# EAGLE library part MPT18 (library pluggable_terminal_blocks)
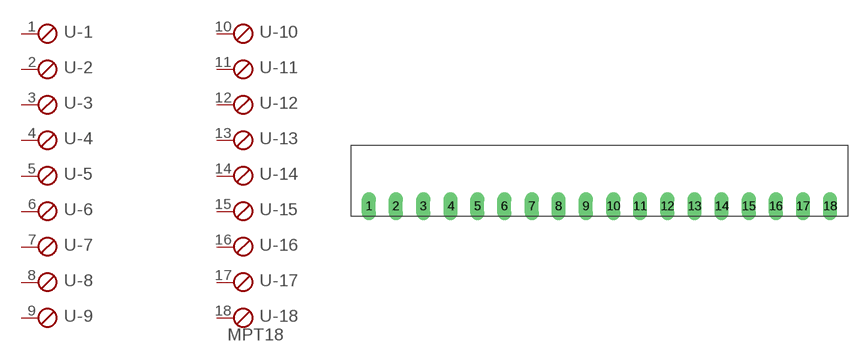
[diagram p11: symbol with the pads of 18POL35; footprint 18POL35]

Designator prefix -; gates -1=SKB -2=SKB -3=SKB -4=SKB -5=SKB -6=SKB -7=SKB -8=SKB -9=SKB -10=SKB -11=SKB -12=SKB -13=SKB -14=SKB -15=SKB -16=SKB -17=SKB -18=SKBV

## MPT18  [18POL35]
1  -1:1  pas
2  -2:1  pas
3  -3:1  pas
4  -4:1  pas
5  -5:1  pas
6  -6:1  pas
7  -7:1  pas
8  -8:1  pas
9  -9:1  pas
10  -10:1  pas
11  -11:1  pas
12  -12:1  pas
13  -13:1  pas
14  -14:1  pas
15  -15:1  pas
16  -16:1  pas
17  -17:1  pas
18  -18:1  pas

## Footprint 18POL35 (pad centres in mm)
drill 1.2 long: 1 -29.77,0; 2 -26.28,0; 3 -22.74,0; 4 -19.2,0; 5 -15.76,0; 6 -12.27,0; 7 -8.73,0; 8 -5.29,0; 9 -1.75,0; 10 1.79,0; 11 5.23,0; 12 8.77,0; 13 12.27,0; 14 15.77,0; 15 19.27,0; 16 22.77,0; 17 26.27,0; 18 29.77,0